# Altium integrated library 776266-1.IntLib: 1 symbol
Pins are listed as number, name and electrical type; pins without a type are passive.

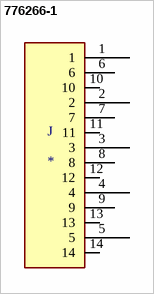
[diagram p0: symbol 776266-1]

## 776266-1
designator J
AMPSEAL 14 Position 4 mm Pitch Triple Row Wire to Board Right Angle Header; MF: TE Connectivity; MP: 776266-1; EU_RoHS_Compliance: Compliant; Value: *; TE_purchase_URL: https://www.te.com/usa-en/product-776266-1.html?te_bu=Cor&te_type=disp&te_campaign=seda_glo_cor-seda-global-disp-prtnr-fy19-seda-model-bom-cta_sma-317_1&elqCampaignId=32493; SnapEDA_Link: https://www.snapeda.com/parts/776266-1/TE%20Connectivity%20AMP%20Connectors/view-part/1467220/?ref=snap; Package: None; Price: None; Availability: Unavailable
footprint TE_776266-1
pins: 1, 2, 3, 4, 5, 6, 7, 8, 9, 10, 11, 12, 13, 14